# Altium footprint library Discrete.PcbLib: 32 footprints (part 1 of 2)
Each footprint in its own frame and in the unit in brackets; x right, y up, seen from the top. Pads: shape width x height; smd on the part's side, far side on the other; paste and mask are expansions set on the pad; w line width, h text height; cw(c..) or ccw(c..) is an arc to the next point about the centre after c.
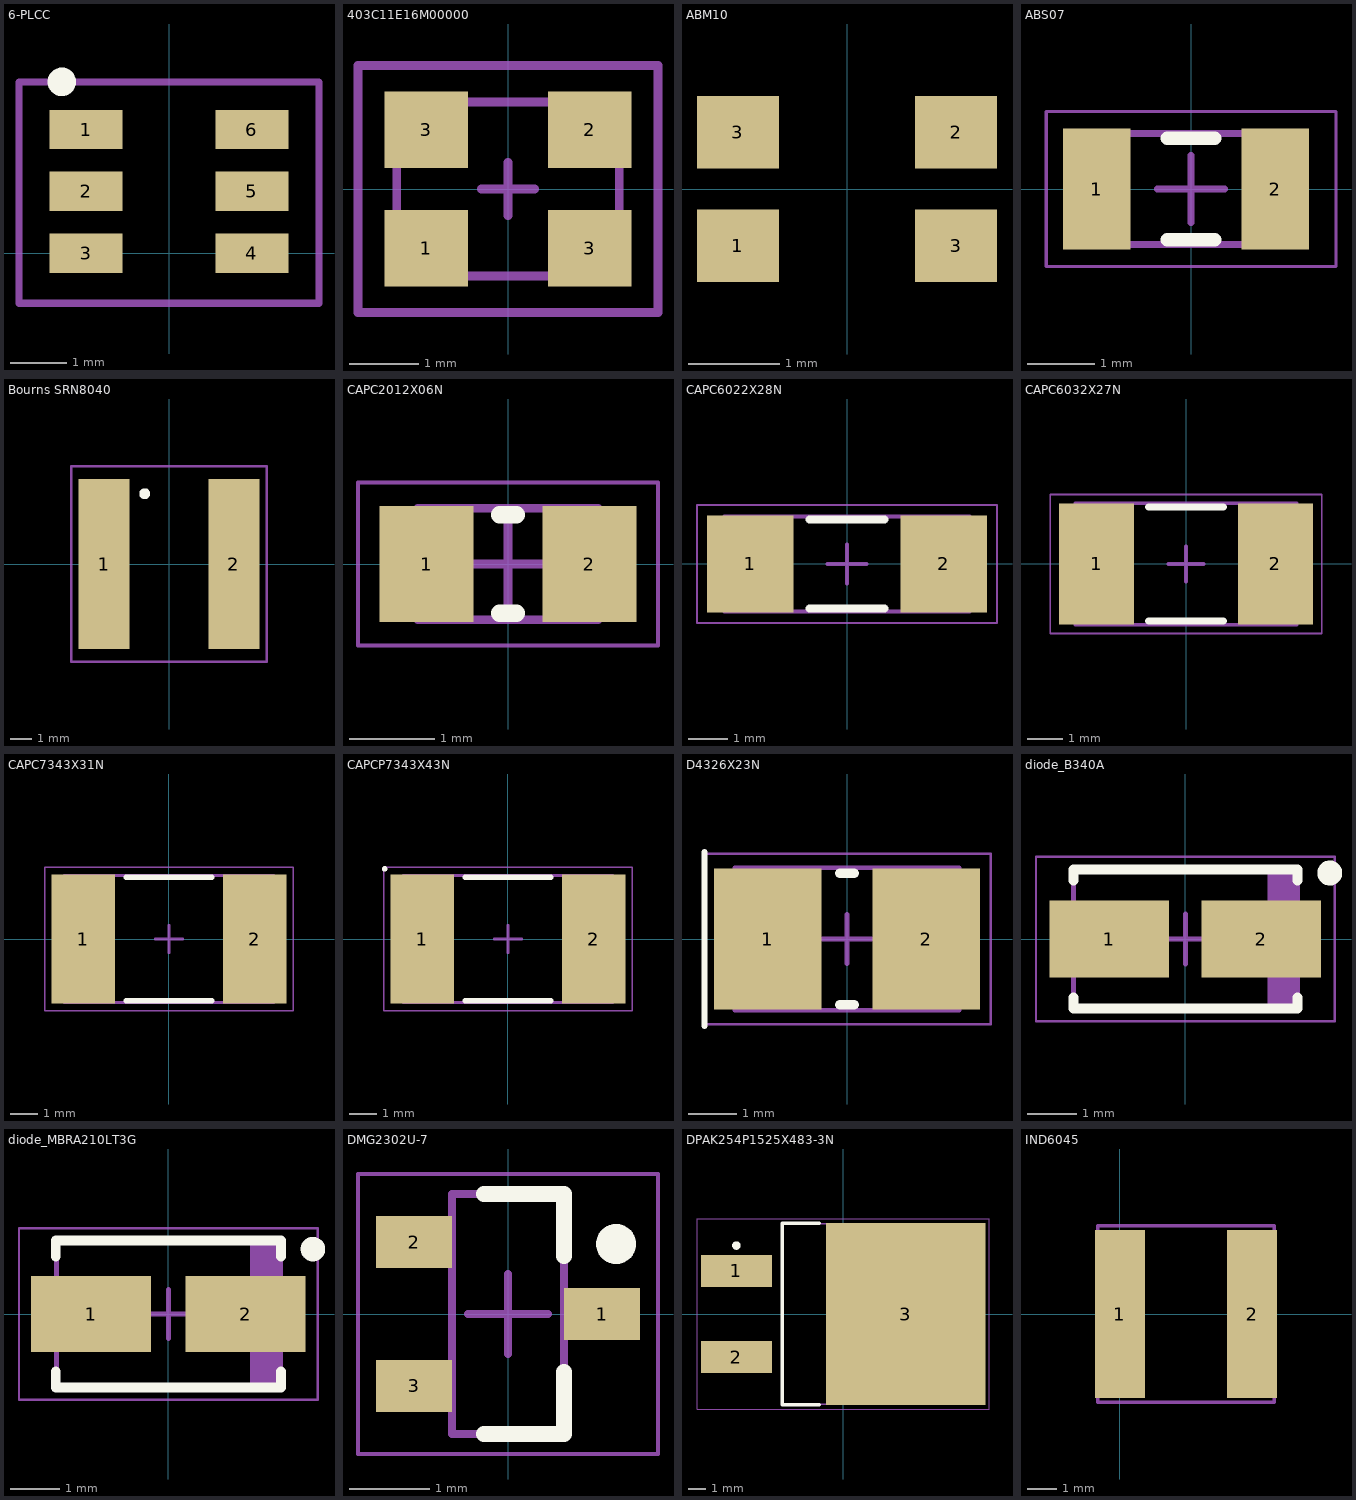
[diagram p0: the footprints below, top view; thin cyan lines are the x and y axes]

## 6-PLCC [mm] "6 Lead Package"
height 2
pads (6):
  rect 1.3x0.7 smd: 1(-1.475,2.2) 2(-1.475,1.1) 3(-1.475,0) 4(1.475,0) 5(1.475,1.1) 6(1.475,2.2)
Top Overlay:
  circle w0.254: c-1.905,3.048 r0.127
Mechanical 15:
  lines w0.127: -2.667,-0.889 -2.667,3.048 2.667,3.048 2.667,-0.889 -2.667,-0.889

## 403C11E16M00000 [mm] "4 Pad Crystal Oscillator"
height 0.8
pads (4):
  rect 1.2x1.1 smd: 1(-1.175,-0.853) 2(1.175,0.853) 3(-1.175,0.853) 3(1.175,-0.853)
Mechanical 1:
  lines w0.127: -1.6,-1.25 -1.6,1.25 1.6,1.25 1.6,-1.25 -1.6,-1.25
Mechanical 15:
  lines w0.127: -0.381,0 0.381,0 ; 0,-0.381 0,0.381 ; -2.159,-1.778 2.159,-1.778 2.159,1.778 -2.159,1.778 -2.159,-1.778
3D body: height 0.8, standoff 0, extent -1.6,-1.25 1.6,1.25

## ABM10 [mm] "4 Terminal Crystal"
height 0.7
pads (4):
  rect 0.9x0.8 smd: 1(-1.2,-0.625) 2(1.2,0.625) 3(-1.2,0.625) 3(1.2,-0.625)

## ABS07 [mm] "Tuning Fork Crystal, 2-Leads, Body 3.18x1.50mm, IPC Medium Density"
height 0.9
pads (2):
  rect 1x1.8 smd: 1(-1.4,0) 2(1.25,0)
Top Overlay:
  lines w0.2: -0.35,-0.75 0.35,-0.75 ; -0.35,0.75 0.35,0.75
Mechanical 13:
  lines w0.1: -1.67,-0.825 -1.67,0.825 1.67,0.825 1.67,-0.825 -1.67,-0.825
Mechanical 15:
  lines w0.05: -2.15,-1.15 -2.15,1.15 2.15,1.15 2.15,-1.15 -2.15,-1.15
  lines w0.1: -0.5,0 0.5,0 ; 0,-0.5 0,0.5
3D body: height 0.9, standoff 0, extent -0.92,-0.825 0.92,0.825
3D body: height 0.9, standoff 0, extent -1.67,-0.825 -0.92,0.825
3D body: height 0.9, standoff 0, extent 0.92,-0.825 1.67,0.825

## Bourns SRN8040 [mm] "Semi-Shielded Power Inductor"
height 4
pads (2):
  rect 2.4x8 smd: 1(-3.05,0) 2(3.05,0)
Top Overlay:
  circle w0.254: c-1.143,3.302 r0.127
Mechanical 15:
  lines w0.127: -4.6,-4.6 4.6,-4.6 4.6,4.6 -4.6,4.6 -4.6,-4.6
3D body: height 4, standoff 0, extent -4,-4 4,4

## CAPC2012X06N [mm] "Chip Capacitor, 2-Leads, Body 2.00x1.20mm, IPC Medium Density"
height 0.6
pads (2):
  rect 1.1x1.35 smd: 1(-0.95,0) 2(0.95,0)
Top Overlay:
  lines w0.2: -0.1,-0.575 0.1,-0.575 ; -0.1,0.575 0.1,0.575
Mechanical 13:
  lines w0.1: -1.05,-0.65 -1.05,0.65 1.05,0.65 1.05,-0.65 -1.05,-0.65
Mechanical 15:
  lines w0.05: -1.75,-0.95 -1.75,0.95 1.75,0.95 1.75,-0.95 -1.75,-0.95
  lines w0.1: -0.5,0 0.5,0 ; 0,-0.5 0,0.5
3D body: height 0.6, standoff 0, extent -0.5,-0.65 0.5,0.65
3D body: height 0.6, standoff 0, extent -1.05,-0.65 -0.5,0.65
3D body: height 0.6, standoff 0, extent 0.5,-0.65 1.05,0.65

## CAPC6022X28N [mm] "Chip Capacitor, 2-Leads, Body 6.00x2.20mm, IPC Medium Density"
height 2.8
pads (2):
  rect 2.2x2.45 smd: 1(-2.45,0) 2(2.45,0)
Top Overlay:
  lines w0.2: -0.95,-1.125 0.95,-1.125 ; -0.95,1.125 0.95,1.125
Mechanical 13:
  lines w0.1: -3.1,-1.2 -3.1,1.2 3.1,1.2 3.1,-1.2 -3.1,-1.2
Mechanical 15:
  lines w0.05: -3.8,-1.5 -3.8,1.5 3.8,1.5 3.8,-1.5 -3.8,-1.5
  lines w0.1: -0.5,0 0.5,0 ; 0,-0.5 0,0.5
3D body: height 2.8, standoff 0, extent -1.8,-1.2 1.8,1.2
3D body: height 2.8, standoff 0, extent -3.1,-1.2 -1.8,1.2
3D body: height 2.8, standoff 0, extent 1.8,-1.2 3.1,1.2

## CAPC6032X27N [mm] "Chip Capacitor, 2-Leads, Body 6.00x3.20mm, IPC Medium Density"
height 2.7
pads (2):
  rect 2.1x3.4 smd: 1(-2.5,0) 2(2.5,0)
Top Overlay:
  lines w0.2: -1.05,-1.6 1.05,-1.6 ; -1.05,1.6 1.05,1.6
Mechanical 13:
  lines w0.1: -3.1,-1.7 3.1,-1.7 3.1,1.7 -3.1,1.7 -3.1,-1.7
Mechanical 15:
  lines w0.05: -3.8,-1.95 3.8,-1.95 3.8,1.95 -3.8,1.95 -3.8,-1.95
  lines w0.1: -0.5,0 0.5,0 ; 0,-0.5 0,0.5
3D body: height 2.7, standoff 0, extent 1.8,-1.7 3.1,1.7
3D body: height 2.7, standoff 0, extent -3.1,-1.7 -1.8,1.7
3D body: height 2.7, standoff 0, extent -1.8,-1.7 1.8,1.7

## CAPC7343X31N [mm] "Chip Capacitor, 2-Leads, Body 7.30x4.30mm, IPC Medium Density"
height 3.1
pads (2):
  rect 2.3x4.65 smd: 1(-3.1,0) 2(3.1,0)
Top Overlay:
  lines w0.2: -1.55,-2.225 1.55,-2.225 ; -1.55,2.225 1.55,2.225
Mechanical 13:
  lines w0.1: -3.8,-2.3 3.8,-2.3 3.8,2.3 -3.8,2.3 -3.8,-2.3
Mechanical 15:
  lines w0.05: -4.5,-2.6 4.5,-2.6 4.5,2.6 -4.5,2.6 -4.5,-2.6
  lines w0.1: -0.5,0 0.5,0 ; 0,-0.5 0,0.5
3D body: height 3.1, standoff 0, extent 2.5,-2.3 3.8,2.3
3D body: height 3.1, standoff 0, extent -3.8,-2.3 -2.5,2.3
3D body: height 3.1, standoff 0, extent -2.5,-2.3 2.5,2.3

## CAPCP7343X43N [mm] "Chip Capacitor, 2-Leads, Body 7.30x4.30mm, IPC Medium Density"
height 4.3
pads (2):
  rect 2.3x4.65 smd: 1(-3.1,0) 2(3.1,0)
Top Overlay:
  circle w0.1: c-4.462,2.537 r0.05
  lines w0.2: -1.55,-2.225 1.55,-2.225 ; -1.55,2.225 1.55,2.225
Mechanical 13:
  lines w0.1: -3.8,-2.3 3.8,-2.3 3.8,2.3 -3.8,2.3 -3.8,-2.3
Mechanical 15:
  lines w0.05: -4.5,-2.6 4.5,-2.6 4.5,2.6 -4.5,2.6 -4.5,-2.6
  lines w0.1: -0.5,0 0.5,0 ; 0,-0.5 0,0.5
3D body: height 4.3, standoff 0, extent 2.5,-2.3 3.8,2.3
3D body: height 4.3, standoff 0, extent -3.8,-2.3 -2.5,2.3
3D body: height 4.3, standoff 0, extent -2.5,-2.3 2.5,2.3

## D4326X23N [mm] "Chip Diode 2-Leads, Body 4.30x2.60mm, IPC Medium Density"
height 2.3
pads (2):
  rect 2.2x2.9 smd: 1(-1.625,0) 2(1.625,0)
Top Overlay:
  lines w0.127: -2.921,-1.778 -2.921,1.778
  lines w0.2: -0.15,-1.35 0.15,-1.35 ; -0.15,1.35 0.15,1.35
Mechanical 13:
  lines w0.1: -2.3,-1.46 -2.3,1.46 2.3,1.46 2.3,-1.46 -2.3,-1.46
Mechanical 15:
  lines w0.05: -2.95,-1.75 -2.95,1.75 2.95,1.75 2.95,-1.75 -2.95,-1.75
  lines w0.1: -0.5,0 0.5,0 ; 0,-0.5 0,0.5
3D body: height 2.3, standoff 0, extent -1.16,-1.46 1.16,1.46
3D body: height 2.3, standoff 0, extent -2.3,-1.46 -1.16,1.46
3D body: height 2.3, standoff 0, extent 1.16,-1.46 2.3,1.46

## diode_B340A [mm] "Molded Diode, 2-Leads, Body 4.25x2.68mm, IPC Medium Density"
height 2.29
pads (2):
  rect 2.4x1.55 smd: 1(-1.525,0) 2(1.525,0)
Top Overlay:
  circle w0.25: c2.9,1.325 r0.125
  lines w0.2: -2.25,-1.175 -2.25,-1.4 2.25,-1.4 2.25,-1.175 ; -2.25,1.175 -2.25,1.4 2.25,1.4 2.25,1.175
Mechanical 13:
  rectangle: 1.645,-1.395 2.25,1.395
  lines w0.1: -2.25,-1.395 2.25,-1.395 2.25,1.395 -2.25,1.395 -2.25,-1.395
Mechanical 15:
  lines w0.05: -3,-1.65 3,-1.65 3,1.65 -3,1.65 -3,-1.65
  lines w0.1: -0.5,0 0.5,0 ; 0,-0.5 0,0.5
3D body: height 2.29, standoff 0, extent -2.25,-1.395 2.25,1.395

## diode_MBRA210LT3G [mm] "Molded Diode, 2-Leads, Body 4.31x2.60mm, IPC Medium Density"
height 2.2
pads (2):
  rect 2.45x1.55 smd: 1(-1.575,0) 2(1.575,0)
Top Overlay:
  circle w0.25: c2.95,1.325 r0.125
  lines w0.2: -2.3,-1.175 -2.3,-1.5 2.3,-1.5 2.3,-1.175 ; -2.3,1.175 -2.3,1.5 2.3,1.5 2.3,1.175
Mechanical 13:
  rectangle: 1.67,-1.46 2.285,1.46
  lines w0.1: -2.285,-1.46 -2.285,1.46 2.285,1.46 2.285,-1.46 -2.285,-1.46
Mechanical 15:
  lines w0.05: -3.05,-1.75 -3.05,1.75 3.05,1.75 3.05,-1.75 -3.05,-1.75
  lines w0.1: -0.5,0 0.5,0 ; 0,-0.5 0,0.5
3D body: height 2.2, standoff 0, extent -2.285,-1.46 2.285,1.46

## DMG2302U-7 [mm] "N-Channel MOSFET, 4.2A Continuous Drain"
height 1
pads (3):
  rect 0.95x0.65 smd: 1(1.175,0) 2(-1.175,0.9) 3(-1.175,-0.9)
Top Overlay:
  circle w0.25: c1.35,0.875 r0.125
  lines w0.2: -0.3,-1.5 0.7,-1.5 0.7,-0.725 ; -0.3,1.5 0.7,1.5 0.7,0.725
Mechanical 13:
  lines w0.1: -0.7,-1.5 -0.7,1.5 0.7,1.5 0.7,-1.5 -0.7,-1.5
Mechanical 15:
  lines w0.05: -1.875,-1.75 -1.875,1.75 1.875,1.75 1.875,-1.75 -1.875,-1.75
  lines w0.1: -0.5,0 0.5,0 ; 0,-0.5 0,0.5
3D body: height 1, standoff 0.01, extent -0.7,-1.5 0.7,1.5

## DPAK254P1525X483-3N [mm] "D2-PAK, 3-Pads, Body 7.93x8.69mm (max), IPC Medium Density"
height 4.83
pads (3):
  rect 4.2x1.9 smd: 1(-6.3,2.54) 2(-6.3,-2.54)
  rect 9.4x10.75 smd: 3(3.7,0)
Top Overlay:
  circle w0.25: c-6.3,4.04 r0.125
  lines w0.2: -1.4,-5.35 -3.6,-5.35 -3.6,5.35 -1.4,5.35
Mechanical 13:
  lines w0.1: -3.6,-5.325 -3.6,5.325 6.05,5.325 6.05,-5.325 -3.6,-5.325
Mechanical 15:
  lines w0.05: -8.625,-5.625 -8.625,5.625 8.625,5.625 8.625,-5.625 -8.625,-5.625
  lines w0.1: -0.5,0 0.5,0 ; 0,-0.5 0,0.5
3D body: height 4.83, standoff 0, extent -3.6,-5.325 6.05,5.325

## IND6045 [mm] "Two Terminal Inductor"
height 4.5
pads (2):
  rect 1.7x5.7 smd: 1(0,0) 2(4.5,0)
Mechanical 15:
  lines w0.127: -0.75,-3 -0.75,3 5.25,3 5.25,-3 -0.75,-3